# EAGLE library part MAX2871 (library VNA)
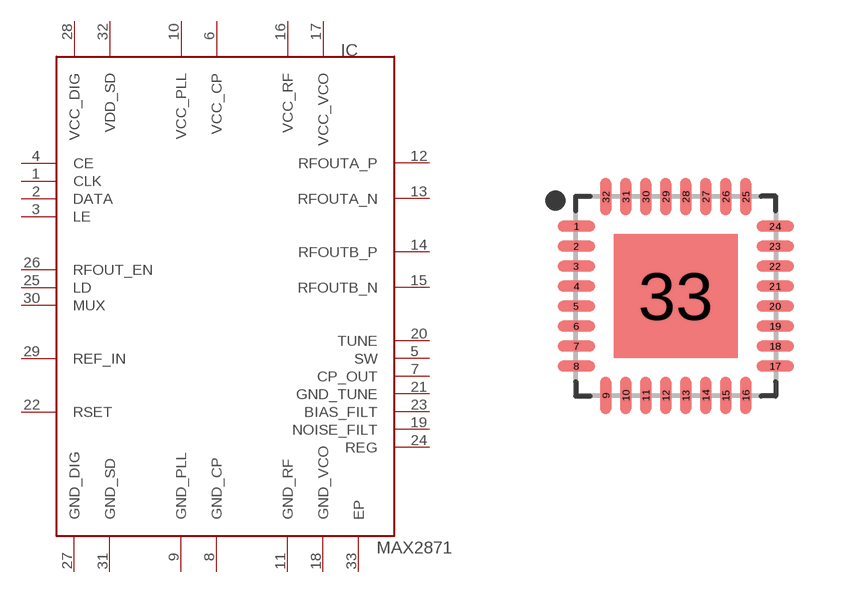
[diagram p5: symbol with the pads of QFN50P500X500X80-33T310; footprint QFN50P500X500X80-33T310]

Designator prefix IC

## MAX2871  [QFN50P500X500X80-33T310]
1  CLK  in
2  DATA  in
3  LE  in
4  CE
5  SW
6  VCC_CP
7  CP_OUT
8  GND_CP
9  GND_PLL
10  VCC_PLL
11  GND_RF
12  RFOUTA_P
13  RFOUTA_N
14  RFOUTB_P
15  RFOUTB_N
16  VCC_RF
17  VCC_VCO
18  GND_VCO
19  NOISE_FILT
20  TUNE
21  GND_TUNE
22  RSET
23  BIAS_FILT
24  REG
25  LD  out
26  RFOUT_EN  in
27  GND_DIG
28  VCC_DIG
29  REF_IN  in
30  MUX
31  GND_SD
32  VDD_SD
33  EP

## Footprint QFN50P500X500X80-33T310 (pad centres in mm)
32-QFN, 0.50 mm pitch, 5.00 X 5.00 X 0.80 mm body, 3.10 X 3.10 mm thermal pad 32-pin QFN package with 0.50 mm pitch with body size 5.00 X 5.00 X 0.80 mm and thermal pad size 3.10 X 3.10 mm
smd 0.937 x 0.27: 1 -2.487,1.75; 2 -2.487,1.25; 3 -2.487,0.75; 4 -2.487,0.25; 5 -2.487,-0.25; 6 -2.487,-0.75; 7 -2.487,-1.25; 8 -2.487,-1.75; 17 2.487,-1.75; 18 2.487,-1.25; 19 2.487,-0.75; 20 2.487,-0.25; 21 2.487,0.25; 22 2.487,0.75; 23 2.487,1.25; 24 2.487,1.75
smd 0.27 x 0.937: 9 -1.75,-2.487; 10 -1.25,-2.487; 11 -0.75,-2.487; 12 -0.25,-2.487; 13 0.25,-2.487; 14 0.75,-2.487; 15 1.25,-2.487; 16 1.75,-2.487; 25 1.75,2.487; 26 1.25,2.487; 27 0.75,2.487; 28 0.25,2.487; 29 -0.25,2.487; 30 -0.75,2.487; 31 -1.25,2.487; 32 -1.75,2.487
smd 3.1 x 3.1: 33 0,0